# Altium schematic symbol library Logic & Analog.SchLib: 8 symbols
Pins are listed as number, name and electrical type; pins without a type are passive.

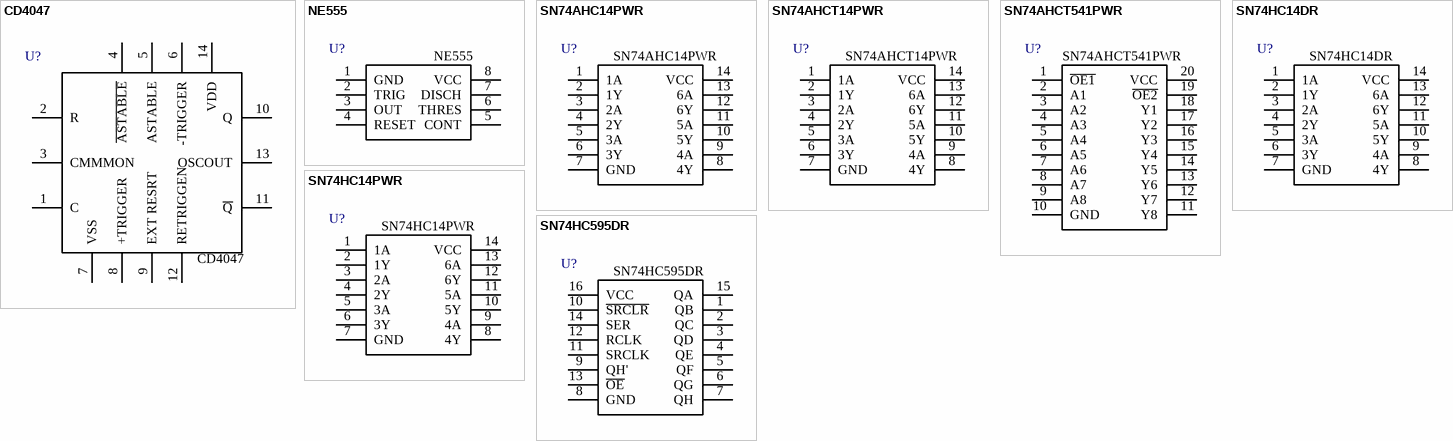
[diagram p0: symbols CD4047 to SN74HC595DR]

## CD4047
designator U?  Global part number: CD4047
Manufacture: Texas Instruments; Size: SOIC-14; Mount type: SMT
footprint SOIC-14
footprint DIP14-300 (DIP 14 Leads, Row Spacing 7.62 mm; Pitch 2.54 mm)
pins: 1 C, 2 R, 3 CMMMON, 4 ~{ASTABLE}, 5 ASTABLE, 6 -TRIGGER, 7 VSS, 8 +TRIGGER, 9 EXT RESRT, 10 Q, 11 ~{Q}, 12 RETRIGGEN, 13 OSCOUT, 14 VDD

## NE555
designator U?
Global part number: NE555DR; Manufacture: Texas Instruments; Size: SOIC-8; Mount type: SMT; Value: NE555
footprint SOIC-8
pins: 1 GND, 2 TRIG, 3 OUT, 4 RESET, 5 CONT, 6 THRES, 7 DISCH, 8 VCC

## SN74AHC14PWR
designator U?  Global part number: SN74AHC14PWR
Manufacture: Texas Instruments; Size: TSSOP-14; Mount type: SMT
footprint TSSOP-14
pins: 1 1A, 2 1Y, 3 2A, 4 2Y, 5 3A, 6 3Y, 7 GND, 8 4Y, 9 4A, 10 5Y, 11 5A, 12 6Y, 13 6A, 14 VCC

## SN74AHCT14PWR
designator U?  Global part number: SN74AHCT14PWR
Manufacture: Texas Instruments; Size: TSSOP-14; Mount type: SMT
footprint TSSOP-14
pins: 1 1A, 2 1Y, 3 2A, 4 2Y, 5 3A, 6 3Y, 7 GND, 8 4Y, 9 4A, 10 5Y, 11 5A, 12 6Y, 13 6A, 14 VCC

## SN74AHCT541PWR
designator U?  Global part number: SN74AHCT541PWR
Manufacture: Texas Instruments; Size: TSSOP-20; Mount type: SMT
footprint TSSOP-20
pins: 1 ~{OE1}, 2 A1, 3 A2, 4 A3, 5 A4, 6 A5, 7 A6, 8 A7, 9 A8, 10 GND, 11 Y8, 12 Y7, 13 Y6, 14 Y5, 15 Y4, 16 Y3, 17 Y2, 18 Y1, 19 ~{OE2}, 20 VCC

## SN74HC14DR
designator U?  Global part number: SN74HC14DR
Manufacture: Texas Instruments; Size: SOIC-14; Mount type: SMT
footprint SOIC-14
pins: 1 1A, 2 1Y, 3 2A, 4 2Y, 5 3A, 6 3Y, 7 GND, 8 4Y, 9 4A, 10 5Y, 11 5A, 12 6Y, 13 6A, 14 VCC

## SN74HC14PWR
designator U?  Global part number: SN74HC14PWR
Manufacture: Texas Instruments; Size: TSSOP-14; Mount type: SMT
footprint TSSOP-14
pins: 1 1A, 2 1Y, 3 2A, 4 2Y, 5 3A, 6 3Y, 7 GND, 8 4Y, 9 4A, 10 5Y, 11 5A, 12 6Y, 13 6A, 14 VCC

## SN74HC595DR
designator U?  Global part number: SN74HC595DR
Manufacture: Texas Instruments; Size: SOIC-16; Mount type: SMT
footprint SOIC-16 150MIL
pins: 1 QB, 2 QC, 3 QD, 4 QE, 5 QF, 6 QG, 7 QH, 8 GND, 9 QH', 10 ~{SRCLR}, 11 SRCLK, 12 RCLK, 13 ~{OE}, 14 SER, 15 QA, 16 VCC